# Altium footprint library d2pak-7_0.PcbLib: 1 footprints
Each footprint in its own frame and in the unit in brackets; x right, y up, seen from the top. Pads: shape width x height; smd on the part's side, far side on the other; paste and mask are expansions set on the pad; w line width, h text height; cw(c..) or ccw(c..) is an arc to the next point about the centre after c.
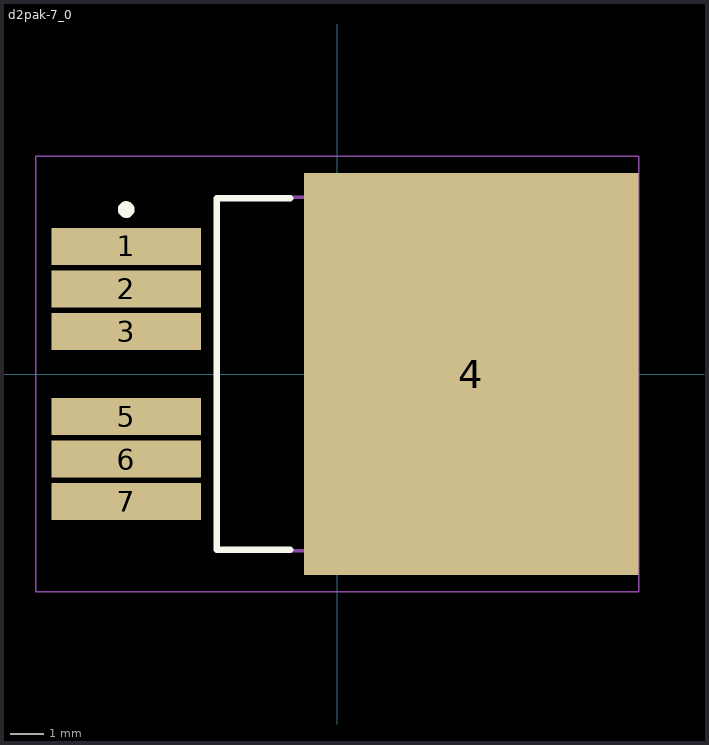
[diagram p0: the footprint, top view; thin cyan lines are the x and y axes]

## d2pak-7_0 [mm] "D2-Pak, 7 pin, Large Thermal Pad"
height 4.83
pads (7):
  rect 4.45x1.1 smd: 1(-6.3,3.81) 2(-6.3,2.54) 3(-6.3,1.27) 5(-6.3,-1.27) 6(-6.3,-2.54) 7(-6.3,-3.81)
  rect 10x12 smd: 4(4,0)
Top Overlay:
  circle w0.25: c-6.3,4.91 r0.125
  lines w0.2: -1.4,-5.25 -3.6,-5.25 -3.6,5.25 -1.4,5.25
Mechanical 13:
  lines w0.1: -3.6,-5.275 6.05,-5.275 6.05,5.275 -3.6,5.275 -3.6,-5.275
Mechanical 15:
  lines w0.05: -9,-6.5 9,-6.5 9,6.5 -9,6.5 -9,-6.5
  lines w0.1: -0.5,0 0.5,0 ; 0,-0.5 0,0.5
3D body: height 4.83, standoff 0, extent -3.6,-5.275 6.05,5.275